# EAGLE library part CW-P (library GPIB_epccs)
Elgar AC Power Supply CW801P 800VA 270VAC@3A CW1251P 1250VA 270VAC@4.7A CW2501P 2500VA 270VAC@3A note options for 310VAC Y (or 537VAC delta)
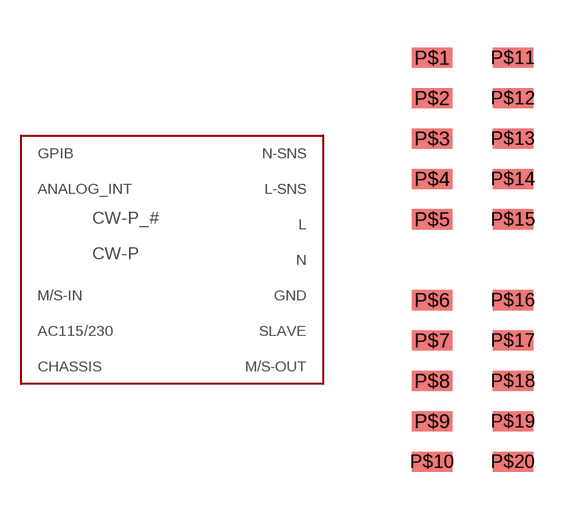
[diagram p2: symbol with the pads of POS20; footprint POS20]

Designator prefix CW-P_#

## CW-P  [POS20]
P$1  AC115/230
P$2  ANALOG_INT
P$3  CHASSIS
P$4  GND
P$5  GPIB
P$6  L
P$7  L-SNS
P$8  M/S-IN
P$9  M/S-OUT
P$10  N
P$11  N-SNS
P$12  SLAVE

## Footprint POS20 (pad centres in mm)
smd 1.27 x 0.635: P$1 -1.27,6.35; P$2 -1.27,5.08; P$3 -1.27,3.81; P$4 -1.27,2.54; P$5 -1.27,1.27; P$6 -1.27,-1.27; P$7 -1.27,-2.54; P$8 -1.27,-3.81; P$9 -1.27,-5.08; P$10 -1.27,-6.35; P$11 1.27,6.35; P$12 1.27,5.08; P$13 1.27,3.81; P$14 1.27,2.54; P$15 1.27,1.27; P$16 1.27,-1.27; P$17 1.27,-2.54; P$18 1.27,-3.81; P$19 1.27,-5.08; P$20 1.27,-6.35